# Altium footprint library osc_dev.PcbLib: 32 footprints (part 1 of 2)
Each footprint in its own frame and in the unit in brackets; x right, y up, seen from the top. Pads: shape width x height; smd on the part's side, far side on the other; paste and mask are expansions set on the pad; w line width, h text height; cw(c..) or ccw(c..) is an arc to the next point about the centre after c.
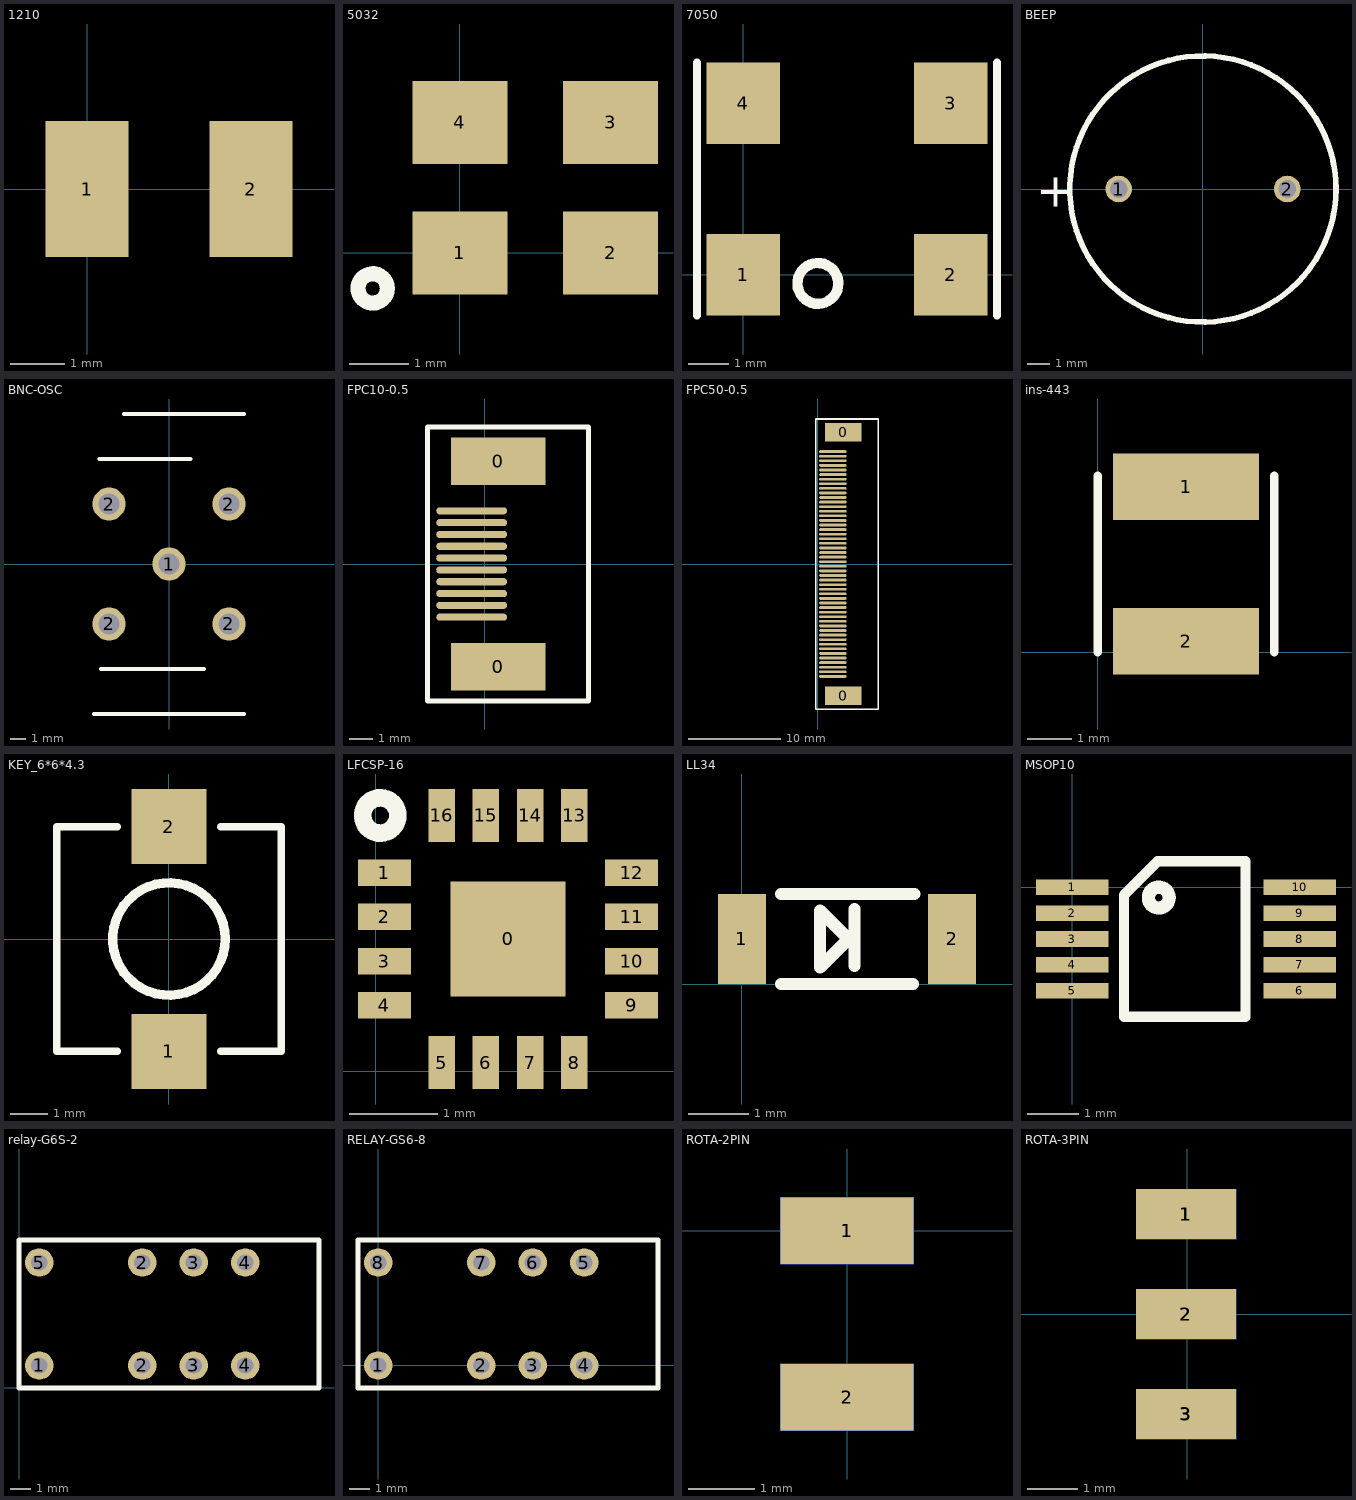
[diagram p0: the footprints below, top view; thin cyan lines are the x and y axes]

## 1210 [mm]
pads (2):
  rect 1.52x2.5 smd: 1(0,0) 2(3,0)

## 5032 [mm]
pads (4):
  rect 1.6x1.4 smd: 1(0,0) 2(2.54,0) 3(2.54,2.2) 4(0,2.2)
Top Overlay:
  circle w0.254: c-1.472,-0.6 r0.247

## 7050 [mm]
pads (4):
  rect 1.8x2 smd: 1(0,0) 2(5.08,0) 3(5.08,4.2) 4(0,4.2)
Top Overlay:
  lines w0.2: -1.135,-1 -1.135,5.2 ; 6.215,-1 6.215,5.2
  lines w0.254: 2.325,-0.175 ccw(c1.826,-0.213) 2.326,-0.213

## BEEP [mm]
pads (2):
  round 1.2 hole 0.8: 1(-3.8,0) 2(3.8,0)
Top Overlay:
  circle w0.254: c0,0 r6
  text "+" at -7.525,-0.8 h1.52

## BNC-OSC [mm]
pads (5):
  round 2.2 hole 1.4: 1(0,0)
  round 2.2 hole 1.4 unplated: 2(-4,-4) 2(-4,4) 2(4,-4) 2(4,4)
Top Overlay:
  lines w0.254: -5,-10 5,-10 ; -4.625,7 1.425,7 ; -4.525,-7 2.35,-7 ; -3,10 5,10

## FPC10-0.5 [mm]
pads (12):
  rect 4x2 smd: 0(0.56,-4.35) 0(0.56,4.35)
  oval 3x0.3 smd: 1(-0.56,-2.25) 2(-0.56,-1.75) 3(-0.56,-1.25) 4(-0.56,-0.75) 5(-0.56,-0.25) 6(-0.56,0.25) 7(-0.56,0.75) 8(-0.56,1.25) 9(-0.56,1.75) 10(-0.56,2.25)
Top Overlay:
  lines w0.2: -2.435,-5.8 4.39,-5.8 ; -2.435,-5.75 -2.435,5.8 4.39,5.8 4.39,-5.75

## FPC50-0.5 [mm]
pads (52):
  rect 4x2 smd: 0(2.745,-14.35) 0(2.745,14.35)
  oval 3x0.3 smd: 1(1.625,12.25) 2(1.625,11.75) 3(1.625,11.25) 4(1.625,10.75) 5(1.625,10.25) 6(1.625,9.75) 7(1.625,9.25) 8(1.625,8.75) 9(1.625,8.25) 10(1.625,7.75) 11(1.625,7.25) 12(1.625,6.75) 13(1.625,6.25) 14(1.625,5.75) 15(1.625,5.25) 16(1.625,4.75) 17(1.625,4.25) 18(1.625,3.75) 19(1.625,3.25) 20(1.625,2.75) 21(1.625,2.25) 22(1.625,1.75) 23(1.625,1.25) 24(1.625,0.75) 25(1.625,0.25) 26(1.625,-0.25) 27(1.625,-0.75) 28(1.625,-1.25) 29(1.625,-1.75) 30(1.625,-2.25) 31(1.625,-2.75) 32(1.625,-3.25) 33(1.625,-3.75) 34(1.625,-4.25) 35(1.625,-4.75) 36(1.625,-5.25) 37(1.625,-5.75) 38(1.625,-6.25) 39(1.625,-6.75) 40(1.625,-7.25) 41(1.625,-7.75) 42(1.625,-8.25) 43(1.625,-8.75) 44(1.625,-9.25) 45(1.625,-9.75) 46(1.625,-10.25) 47(1.625,-10.75) 48(1.625,-11.25) 49(1.625,-11.75) 50(1.625,-12.25)
Top Overlay:
  lines w0.2: -0.25,-15.825 -0.25,15.8 6.145,15.8 6.575,15.8 6.575,-15.825 -0.25,-15.825

## ins-443 [mm]
pads (2):
  rect 3.3x1.5 smd: 1(2,3.75) 2(2,0.25)
Top Overlay:
  lines w0.2: 0,0 0,4 ; 4,0 4,4

## KEY_6*6*4.3 [mm]
pads (2):
  rect 2x2 smd: 1(0,-3) 2(0,3)
Top Overlay:
  circle w0.254: c0,0 r1.5
  lines w0.2: -1.375,-3 -3,-3 -3,3 -1.375,3 ; 1.375,-3 3,-3 3,3 1.375,3

## LFCSP-16 [mm]
pads (17):
  rect 1.3x1.3 smd: 0(1.5,1.5)
  rect 0.6x0.3 smd: 1(0.1,2.25) 2(0.1,1.75) 3(0.1,1.25) 4(0.1,0.75) 9(2.9,0.75) 10(2.9,1.25) 11(2.9,1.75) 12(2.9,2.25)
  rect 0.3x0.6 smd: 5(0.75,0.1) 6(1.25,0.1) 7(1.75,0.1) 8(2.25,0.1) 13(2.25,2.9) 14(1.75,2.9) 15(1.25,2.9) 16(0.75,2.9)
Top Overlay:
  circle w0.2: c0.051,2.9 r0.2

## LL34 [mm]
pads (2):
  rect 0.8x1.5 smd: 1(0,0.75) 2(3.5,0.75)
Top Overlay:
  lines w0.2: 0.65,0 2.85,0 ; 0.65,1.5 2.875,1.5 ; 1.875,0.3 1.875,1.25 ; 1.3,0.275 1.775,0.75 1.3,1.225 1.3,0.275

## MSOP10 [mm]
pads (10):
  rect 1.4x0.3 smd: 1(0,0) 2(0,-0.5) 3(0,-1) 4(0,-1.5) 5(0,-2) 6(4.4,-2) 7(4.4,-1.5) 8(4.4,-1) 9(4.4,-0.5) 10(4.4,0)
Top Overlay:
  circle w0.254: c1.673,-0.2 r0.202
  lines w0.2: 1,-2.5 3.35,-2.5 3.35,0.5 1.65,0.5 1,-0.15 1,-2.5

## relay-G6S-2 [mm]
pads (8):
  round 1.4 hole 0.8: 1(1,1.11) 2(6.08,1.11) 2(6.08,6.19) 3(8.62,1.11) 3(8.62,6.19) 4(11.16,1.11) 4(11.16,6.19) 5(1,6.19)
Top Overlay:
  lines w0.254: 0,0 14.8,0 14.8,7.3 0,7.3 0,0
3D body: height 10.86, standoff 1.6, extent 0,0 14.8,7.3

## RELAY-GS6-8 [mm]
pads (8):
  round 1.4 hole 0.8: 1(0,0) 2(5.08,0) 3(7.62,0) 4(10.16,0) 5(10.16,5.08) 6(7.62,5.08) 7(5.08,5.08) 8(0,5.08)
Top Overlay:
  lines w0.254: -1,-1.11 -1,6.19 13.8,6.19 13.8,-1.11 -1,-1.11
3D body: height 10.86, standoff 1.6, extent -1,-1.11 13.8,6.19

## ROTA-2PIN [mm]
pads (4):
  rect 2x1 smd: 1(0,0) 2(0,-2.5)
  rect 2x1 smd far side: 1(0,0) 2(0,-2.5)

## ROTA-3PIN [mm]
pads (6):
  rect 2x1 smd: 1(-0.025,2) 2(-0.025,0) 3(-0.025,-2)
  rect 2x1 smd far side: 1(-0.025,2) 2(-0.025,0) 3(-0.025,-2)